# Altium integrated library C0603C220J5GACTU.IntLib: 1 symbol
Pins are listed as number, name and electrical type; pins without a type are passive.

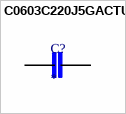
[diagram p0: symbol C0603C220J5GACTU]

## C0603C220J5GACTU
designator C?
22pF Â±5% 50V Ceramic Capacitor C0G, NP0 0603 (1608 Metric); MF: KEMET; MP: C0603C220J5GACTU; Value: *; Check_prices: https://www.snapeda.com/parts/C0603C220J5GACTU/KEMET/view-part/47101/?ref=eda; Price: None; SnapEDA_Link: https://www.snapeda.com/parts/C0603C220J5GACTU/KEMET/view-part/47101/?ref=snap; Purchase-URL: https://pricing.snapeda.com/search/part/C0603C220J5GACTU/?ref=eda; Package: 0603 Kemet; Availability: Good
footprint CAPC1608X90
pins: 1, 2